# Altium schematic symbol library WCAP-AWG8.SchLib: 1 symbol
Pins are listed as number, name and electrical type; pins without a type are passive.

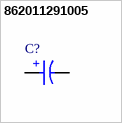
[diagram p0: symbol 862011291005]

## 862011291005
designator C?, comment 8200µF  (value not drawn)
WCAP-AWG8 Aluminum Electrolytic Capacitor, Screw Mount, D76.2 x H145mm, 8200µF, 350V (DC); Manufacturer Part Number: 862011291005; Manufacturer: Wurth Elektronik; Dissipation Factor: 15%; Leakage Current: 5000µA; Ripple Current: 21A; Category: Aluminum Electrolytic Capacitors; Match Code: WCAP-AWG8; ComponentLink1Description: Website Link; ComponentLink1URL: https://www.we-online.com/redexpert/article/862011291005?ad; ComponentLink2Description: Datasheet Link; ComponentLink2URL: https://www.we-online.com/redexpert/spec/862011291005?ad; Mount: Screw; Min Operating Temperature: -40°C; Max Operating Temperature: 85°C; Packaging: Tape and Reel; Height: 145mm; Diameter: 76.2mm; Capacitance: 8200µF; Rated Voltage: 350V (DC)
footprint WCAP-AWG8_D76.2H145
pins: 1 P, 2 N
text: +